# Altium footprint library MotorDrivers.PcbLib: 2 footprints
Each footprint in its own frame and in the unit in brackets; x right, y up, seen from the top. Pads: shape width x height; smd on the part's side, far side on the other; paste and mask are expansions set on the pad; w line width, h text height; cw(c..) or ccw(c..) is an arc to the next point about the centre after c.
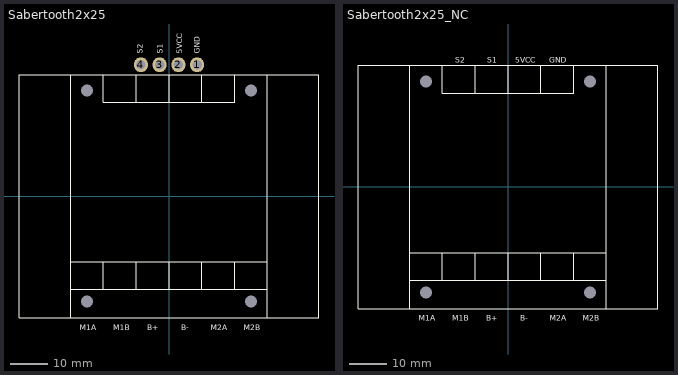
[diagram p0: the footprints below, top view; thin cyan lines are the x and y axes]

## Sabertooth2x25 [mil] "Dimension Engineering Sabertooth2X25 Motor Driver"
pads (8):
  oval 150x159 hole 100: 1(300,1400) 2(100,1400) 3(-100,1400) 4(-300,1400)
  round 0 hole 130: ""(-875,-1125) ""(-875,1125) ""(875,-1125) ""(875,1125)
Top Overlay:
  lines w10: -1050,-1300 -1050,1295 ; -1050,-995 1050,-995 ; -1050,-700 1050,-700 ; -700,-700 -700,-995 -350,-995 -350,-700 ; -700,1295 -700,1000 700,1000 700,1295 ; -350,1000 -350,1295 ; 0,-995 0,-700 ; 0,1000 0,1295 ; 350,-995 350,-700 ; 350,1000 350,1295 ; 700,-995 700,-700 ; 1050,-1300 1050,1295 ; -1600,-1300 -1600,1295 1600,1295 1600,-1300 -1600,-1300
  text "M1A" at -950,-1430 h60
  text "M1B" at -595,-1430 h60
  text "B+" at -230,-1430 h60
  text "B-" at 130,-1430 h60
  text "M2A" at 445,-1430 h60
  text "M2B" at 795,-1430 h60
  text "S2" at -280,1520 h60
  text "S1" at -65,1520 h60
  text "5VCC" at 140,1520 h60
  text "GND" at 330,1520 h60
3D body: height 800, standoff 0, extent -1600,-1305 1600,1295

## Sabertooth2x25_NC [mil] "Dimension Engineering Sabertooth2X25 Motor Driver (No Connection Pads)"
pads (4):
  round 0 hole 130: ""(-875,-1125) ""(-875,1125) ""(875,-1125) ""(875,1125)
Top Overlay:
  lines w10: -1050,-1300 -1050,1295 ; -1050,-995 1050,-995 ; -1050,-700 1050,-700 ; -700,-700 -700,-995 -350,-995 -350,-700 ; -700,1295 -700,1000 700,1000 700,1295 ; -350,1000 -350,1295 ; 0,-995 0,-700 ; 0,1000 0,1295 ; 350,-995 350,-700 ; 350,1000 350,1295 ; 700,-995 700,-700 ; 1050,-1300 1050,1295 ; -1600,-1300 1600,-1300 1600,1295 -1600,1295 -1600,-1300
  text "GND" at 440,1325 h60
  text "5VCC" at 75,1325 h60
  text "S1" at -220,1325 h60
  text "S2" at -565,1325 h60
  text "M2B" at 795,-1430 h60
  text "M2A" at 445,-1430 h60
  text "B-" at 130,-1430 h60
  text "B+" at -230,-1430 h60
  text "M1B" at -595,-1430 h60
  text "M1A" at -950,-1430 h60
3D body: height 800, standoff 0, extent -1600,-1305 1600,1295